# Altium footprint library WE-GFH.PcbLib: 3 footprints
Each footprint in its own frame and in the unit in brackets; x right, y up, seen from the top. Pads: shape width x height; smd on the part's side, far side on the other; paste and mask are expansions set on the pad; w line width, h text height; cw(c..) or ccw(c..) is an arc to the next point about the centre after c.
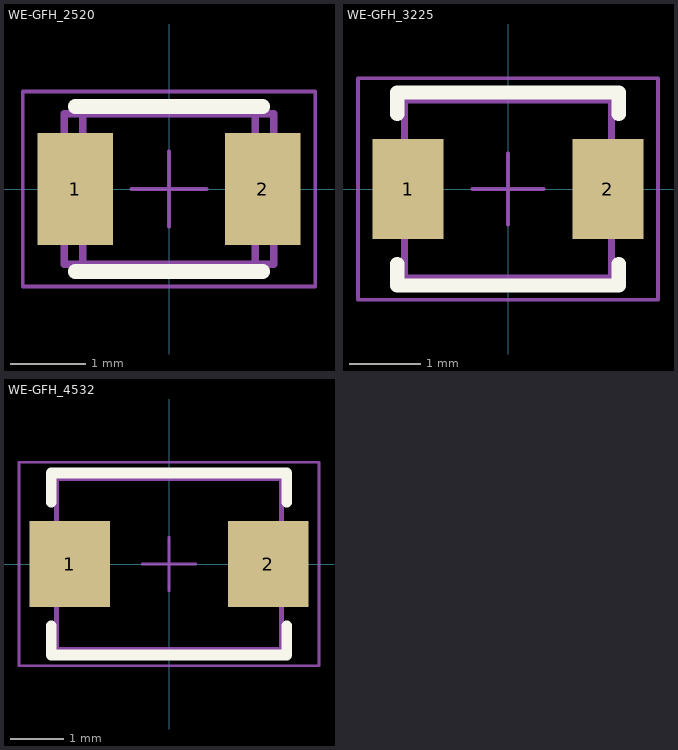
[diagram p0: the footprints below, top view; thin cyan lines are the x and y axes]

## WE-GFH_2520 [mm] "SMT High Frequency Inductor, body 2.5x2mm"
height 2
pads (2):
  rect 1x1.5 smd: 1(-1.25,0) 2(1.25,0)
Top Overlay:
  lines w0.2: -1.25,-1.1 1.25,-1.1 ; -1.25,1.1 1.25,1.1
Top Designator:
  text ".Designator" at -3.499,-0.233 h0.7
Top Component Outline:
  lines w0.1: -1.4,-1 -1.4,1 1.4,1 1.4,-1 -1.4,-1
Top 3D Body:
  lines w0.1: -1.15,-1 1.15,-1 1.15,1 -1.15,1 -1.15,-1
Top Courtyard:
  lines w0.05: -0.5,0 0.5,0 ; 0,-0.5 0,0.5 ; -1.95,-1.3 1.95,-1.3 1.95,1.3 -1.95,1.3 -1.95,-1.3
3D body "WE-GFH 2520.stp": height 1.8, standoff 0, extent -1.25,-1 1.25,1

## WE-GFH_3225 [mm] "SMT High Frequency Inductor, body 3.4x2.5mm"
height 2.4
pads (2):
  rect 1x1.4 smd: 1(-1.4,0) 2(1.4,0)
Top Overlay:
  lines w0.2: -1.55,-1.05 -1.55,-1.35 1.55,-1.35 1.55,-1.05 ; -1.55,1.05 -1.55,1.35 1.55,1.35 1.55,1.05
Top Designator:
  text ".Designator" at -3.499,-0.233 h0.7
Top Component Outline:
  lines w0.1: -1.45,-1.25 1.45,-1.25 1.45,1.25 -1.45,1.25 -1.45,-1.25
Top 3D Body:
  lines w0.1: -1.45,-1.25 -1.45,1.25 1.45,1.25 1.45,-1.25 -1.45,-1.25
Top Courtyard:
  lines w0.05: -0.5,0 0.5,0 ; 0,-0.5 0,0.5 ; -2.1,-1.55 2.1,-1.55 2.1,1.55 -2.1,1.55 -2.1,-1.55
3D body "IndGFH_3225.stp": height 2.19, standoff -0.01, extent -1.68,-1.25 1.68,1.25

## WE-GFH_4532 [mm] "SMT High Frequency Inductor, body 4.5x3.2mm"
height 3.4
pads (2):
  rect 1.5x1.6 smd: 1(-1.85,0) 2(1.85,0)
Top Overlay:
  lines w0.2: -2.2,-1.15 -2.2,-1.7 2.2,-1.7 2.2,-1.15 ; -2.2,1.15 -2.2,1.7 2.2,1.7 2.2,1.15
Top Designator:
  text ".Designator" at -4.998,-0.333 h1
Top Component Outline:
  lines w0.1: -2.1,-1.6 2.1,-1.6 2.1,1.6 -2.1,1.6 -2.1,-1.6
Top 3D Body:
  lines w0.1: -2.1,-1.6 -2.1,1.6 2.1,1.6 2.1,-1.6 -2.1,-1.6
Top Courtyard:
  lines w0.05: -0.5,0 0.5,0 ; 0,-0.5 0,0.5 ; -2.8,-1.9 2.8,-1.9 2.8,1.9 -2.8,1.9 -2.8,-1.9
3D body "IndGFH_4532.stp": height 3.19, standoff -0.01, extent -2.25,-1.6 2.25,1.6